# Altium footprint library pedals-regulators.PCBLIB: 9 footprints
Each footprint in its own frame and in the unit in brackets; x right, y up, seen from the top. Pads: shape width x height; smd on the part's side, far side on the other; paste and mask are expansions set on the pad; w line width, h text height; cw(c..) or ccw(c..) is an arc to the next point about the centre after c.
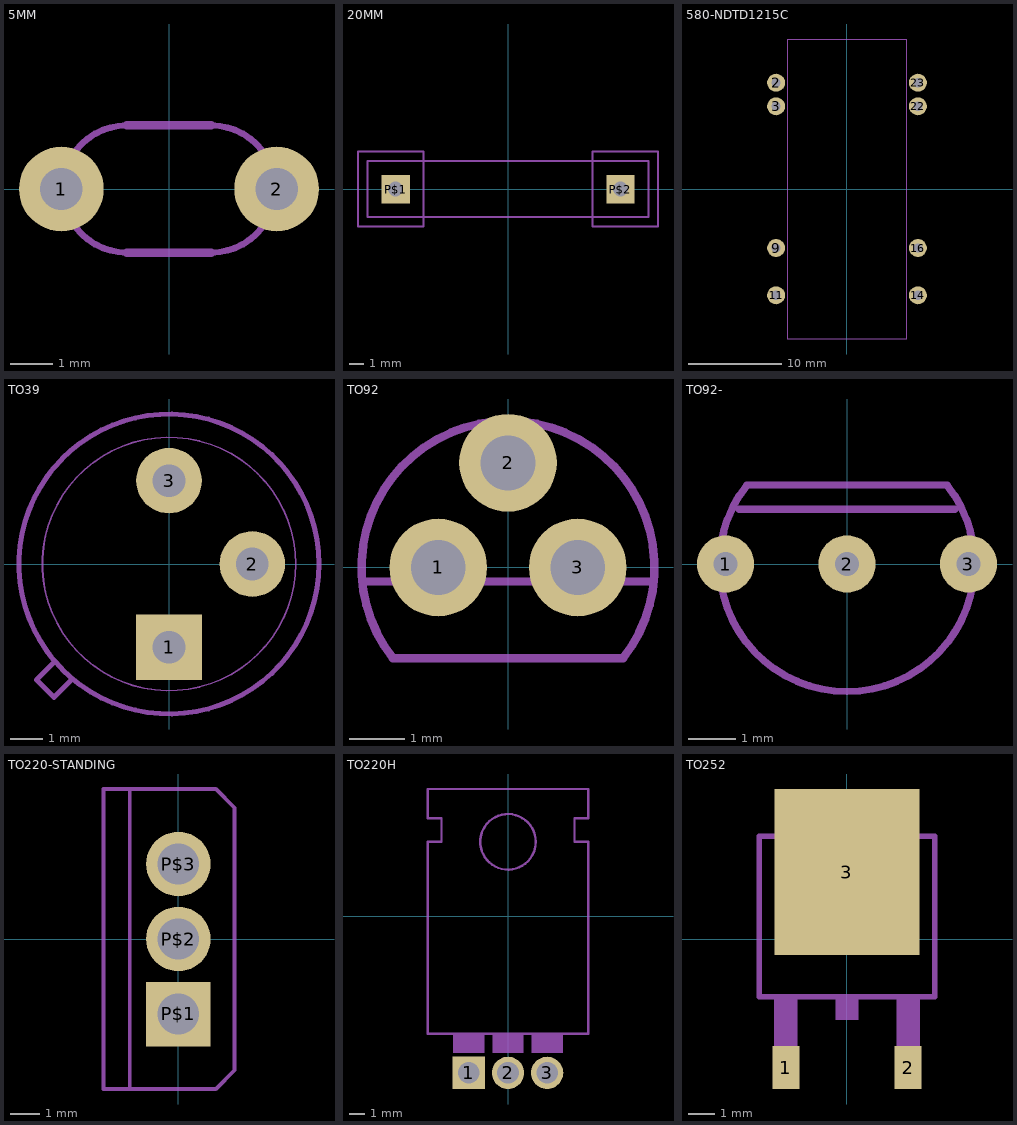
[diagram p0: the footprints below, top view; thin cyan lines are the x and y axes]

## 5MM [mm]
pads (2):
  round 2 hole 1: 1(-2.54,0) 2(2.54,0)
Mechanical 2:
  lines w0.152: -1,-1.5 cw(c-1,0) -2.5,0 cw(c-1,0) -1,1.5 ; 1,-1.5 ccw(c1,0) 2.5,0 ccw(c1,0) 1,1.5
  lines w0.203: -1,-1.5 1,-1.5 ; -1,1.5 1,1.5

## 20MM [mil]
pads (2):
  rect 76x76 hole 39.37: P$1(-300,0) P$2(300,0)
Mechanical 2:
  lines w5: -400,-100 -225,-100 -225,100 -400,100 -400,-100 ; -375,-75 375,-75 375,75 -375,75 -375,-75 ; 225,-100 400,-100 400,100 225,100 225,-100

## 580-NDTD1215C [mil]
pads (8):
  round 76 hole 39.37: 2(-300,450) 3(-300,350) 9(-300,-250) 11(-300,-450) 14(300.39,-450) 16(300.39,-250) 22(300.39,350) 23(300.39,450)
Mechanical 2:
  lines w5: -250,-635.04 250,-635.04 250,635.04 -250,635.04 -250,450 -250,-635.04

## TO39 [mm]
pads (3):
  rect 2x2 hole 1: 1(0,-2.54)
  round 2 hole 1: 2(2.54,0) 3(0,2.54)
Mechanical 2:
  circle w0.152: c0,0 r4.572
  circle w0.051: c0,0 r3.861
  lines w0.152: -3.505,-2.997 -4.039,-3.531 -3.505,-4.064 -2.972,-3.531

## TO92 [mil]
pads (3):
  round 70 hole 39.37: 1(-50,0) 2(0,75) 3(50,0)
Mechanical 2:
  lines w6: -104.53,-10 -88.74,-10 ; -30.98,100.33 ccw(c-0.02,0) -82.48,-65 82.48,-65 ccw(c0.02,0) 30.98,100.33 ; -11.26,-10 11.26,-10 ; 88.74,-10 104.53,-10
Mechanical 18:
  lines w6: -88.74,-10 -11.26,-10 ; -30.96,100.33 cw(c0,0) 30.96,100.33 ; 11.26,-10 88.74,-10

## TO92- [mil]
pads (3):
  round 47 hole 19.69: 1(-100,0) 2(0,0) 3(100,0)
Mechanical 2:
  lines w6: -30.98,-100.33 cw(c-0.02,0) -82.48,65 82.48,65 cw(c0.02,0) 30.98,-100.33
Mechanical 18:
  lines w6: -88.74,45 88.74,45 ; -30.96,-100.33 ccw(c0,0) 30.96,-100.33

## TO220-STANDING [mil]
pads (3):
  rect 86x86 hole 55.12: P$1(0,-100)
  round 86 hole 55.12: P$2(0,0) P$3(0,100)
Mechanical 2:
  lines w5: -65,-200 50,-200 75,-175 75,175 50,200 -65,200 ; -65,-200 -100,-200 -100,200 -65,200 ; -65,-200 -65,200

## TO220H [mil]
pads (3):
  rect 82.68x82.68 hole 55.12: 1(-100,-400)
  round 82.68 hole 55.12: 2(0,-400) 3(100,-400)
Mechanical 2:
  circle w6: c0,190 r71
  rectangle: -140,-350 -60,-300
  rectangle: -40,-350 40,-300
  rectangle: 60,-350 140,-300
  lines w6: -205,-300 205,-300 205,190 170,190 170,250 205,250 205,325 -205,325 -205,250 -170,250 -170,190 -205,190 -205,-300

## TO252 [mm]
pads (3):
  rect 1x1.6 smd: 1(-2.28,-4.8) 2(2.28,-4.8)
  rect 5.4x6.2 smd: 3(0,2.5)
Mechanical 2:
  rectangle: -0.432,-3.023 0.432,-2.261
  lines w0.203: -3.277,3.835 -3.277,-2.159 3.277,-2.159 3.277,3.835
Mechanical 18:
  rectangle: -2.718,-5.156 -1.854,-2.261
  rectangle: 1.854,-5.156 2.718,-2.261
  region: 0,0 0.254,0 0.254,0.254 0,0.254
  lines w0.203: -3.277,3.835 3.277,3.835 ; -2.565,3.937 -2.565,4.648 -2.108,5.105 2.108,5.105 2.565,4.648 2.565,3.937 -2.565,3.937